# Altium schematic symbol library LM2931D.Schlib: 1 symbol
Pins are listed as number, name and electrical type; pins without a type are passive.

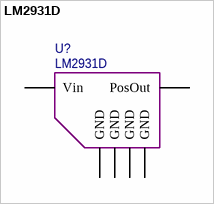
[diagram p0: symbol LM2931D]

## LM2931D
designator U?
pins: 1 PosOut, 2 GND, 3 GND, 6 GND, 7 GND, 8 Vin